# Altium schematic symbol library WP-SMSH.SchLib: 8 symbols
Pins are listed as number, name and electrical type; pins without a type are passive.

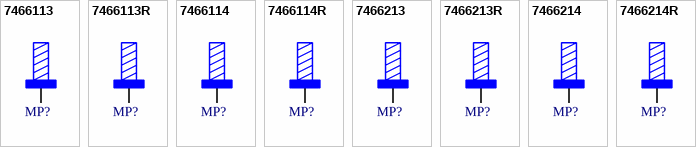
[diagram p0: symbols 7466113 to 7466214R]

## 7466113
designator MP?, comment M3 x 5mm  (value not drawn)
WP-SMSH REDCUBE SMT with external thread with pins, OD 7mm, M3 x 5mm, 50A; Manufacturer Part Number: 7466113; Manufacturer: Wurth Elektronik; Surface: Tin; ComponentLink1Description: Website Link; ComponentLink1URL: https://www.we-online.com/redexpert/article/7466113?ad; ComponentLink2Description: Datasheet Link; ComponentLink2URL: https://www.we-online.com/redexpert/spec/7466113?ad; Category: REDCUBE SMT; Match Code: WP-SMSH; Mount: Surface Mount; Operating Temperature Max: 150°C; Operating Temperature Min: -55°C; Packaging: Bulk; Height: 8mm; Diameter: 7mm; Material: Brass; Outer Diameter: 7mm; Rated Current: 50A; Thread Length: 5mm; Thread Size: M3
footprint 7466113
pins: 1

## 7466113R
designator MP?, comment M3 x 5mm  (value not drawn)
WP-SMSH REDCUBE SMT with external thread with pins, OD 7mm, M3 x 5mm, 50A; Manufacturer Part Number: 7466113R; Manufacturer: Wurth Elektronik; Surface: Tin; ComponentLink1Description: Website Link; ComponentLink1URL: https://www.we-online.com/redexpert/article/7466113R?ad; ComponentLink2Description: Datasheet Link; ComponentLink2URL: https://www.we-online.com/redexpert/spec/7466113R?ad; Category: REDCUBE SMT; Match Code: WP-SMSH; Mount: Surface Mount; Operating Temperature Max: 150°C; Operating Temperature Min: -55°C; Packaging: Tape and Reel; Height: 8mm; Diameter: 7mm; Material: Brass; Outer Diameter: 7mm; Rated Current: 50A; Thread Length: 5mm; Thread Size: M3
footprint 7466113
pins: 1

## 7466114
designator MP?, comment M4 x 5mm  (value not drawn)
WP-SMSH REDCUBE SMT with external thread with pins, OD 7mm, M4 x 5mm, 50A; Manufacturer Part Number: 7466114; Manufacturer: Wurth Elektronik; Surface: Tin; ComponentLink1Description: Website Link; ComponentLink1URL: https://www.we-online.com/redexpert/article/7466114?ad; ComponentLink2Description: Datasheet Link; ComponentLink2URL: https://www.we-online.com/redexpert/spec/7466114?ad; Category: REDCUBE SMT; Match Code: WP-SMSH; Mount: Surface Mount; Operating Temperature Max: 150°C; Operating Temperature Min: -55°C; Packaging: Bulk; Height: 8mm; Diameter: 7mm; Material: Brass; Outer Diameter: 7mm; Rated Current: 50A; Thread Length: 5mm; Thread Size: M4
footprint 7466114
pins: 1

## 7466114R
designator MP?, comment M4 x 5mm  (value not drawn)
WP-SMSH REDCUBE SMT with external thread with pins, OD 7mm, M4 x 5mm, 50A; Manufacturer Part Number: 7466114R; Manufacturer: Wurth Elektronik; Surface: Tin; ComponentLink1Description: Website Link; ComponentLink1URL: https://www.we-online.com/redexpert/article/7466114R?ad; ComponentLink2Description: Datasheet Link; ComponentLink2URL: https://www.we-online.com/redexpert/spec/7466114R?ad; Category: REDCUBE SMT; Match Code: WP-SMSH; Mount: Surface Mount; Operating Temperature Max: 150°C; Operating Temperature Min: -55°C; Packaging: Tape and Reel; Height: 8mm; Diameter: 7mm; Material: Brass; Outer Diameter: 7mm; Rated Current: 50A; Thread Length: 5mm; Thread Size: M4
footprint 7466114
pins: 1

## 7466213
designator MP?, comment M3 x 5mm  (value not drawn)
WP-SMSH REDCUBE SMT with external thread, OD 7mm, M3 x 5mm, 50A; Manufacturer Part Number: 7466213; Manufacturer: Wurth Elektronik; Surface: Tin; ComponentLink1Description: Website Link; ComponentLink1URL: https://www.we-online.com/redexpert/article/7466213?ad; ComponentLink2Description: Datasheet Link; ComponentLink2URL: https://www.we-online.com/redexpert/spec/7466213?ad; Category: REDCUBE SMT; Match Code: WP-SMSH; Mount: Surface Mount; Operating Temperature Max: 150°C; Operating Temperature Min: -55°C; Packaging: Bulk; Height: 8mm; Diameter: 7mm; Material: Brass; Outer Diameter: 7mm; Rated Current: 50A; Thread Length: 5mm; Thread Size: M3
footprint 7466213
pins: 1

## 7466213R
designator MP?, comment M3 x 5mm  (value not drawn)
WP-SMSH REDCUBE SMT with external thread, OD 7mm, M3 x 5mm, 50A; Manufacturer Part Number: 7466213R; Manufacturer: Wurth Elektronik; Surface: Tin; ComponentLink1Description: Website Link; ComponentLink1URL: https://www.we-online.com/redexpert/article/7466213R?ad; ComponentLink2Description: Datasheet Link; ComponentLink2URL: https://www.we-online.com/redexpert/spec/7466213R?ad; Category: REDCUBE SMT; Match Code: WP-SMSH; Mount: Surface Mount; Operating Temperature Max: 150°C; Operating Temperature Min: -55°C; Packaging: Tape and Reel; Height: 8mm; Diameter: 7mm; Material: Brass; Outer Diameter: 7mm; Rated Current: 50A; Thread Length: 5mm; Thread Size: M3
footprint 7466213
pins: 1

## 7466214
designator MP?, comment M4 x 5mm  (value not drawn)
WP-SMSH REDCUBE SMT with external thread, OD 7mm, M4 x 5mm, 50A; Manufacturer Part Number: 7466214; Manufacturer: Wurth Elektronik; Surface: Tin; ComponentLink1Description: Website Link; ComponentLink1URL: https://www.we-online.com/redexpert/article/7466214?ad; ComponentLink2Description: Datasheet Link; ComponentLink2URL: https://www.we-online.com/redexpert/spec/7466214?ad; Category: REDCUBE SMT; Match Code: WP-SMSH; Mount: Surface Mount; Operating Temperature Max: 150°C; Operating Temperature Min: -55°C; Packaging: Bulk; Height: 8mm; Diameter: 7mm; Material: Brass; Outer Diameter: 7mm; Rated Current: 50A; Thread Length: 5mm; Thread Size: M4
footprint 7466214
pins: 1

## 7466214R
designator MP?, comment M4 x 5mm  (value not drawn)
WP-SMSH REDCUBE SMT with external thread, OD 7mm, M4 x 5mm, 50A; Manufacturer Part Number: 7466214R; Manufacturer: Wurth Elektronik; Surface: Tin; ComponentLink1Description: Website Link; ComponentLink1URL: https://www.we-online.com/redexpert/article/7466214R?ad; ComponentLink2Description: Datasheet Link; ComponentLink2URL: https://www.we-online.com/redexpert/spec/7466214R?ad; Category: REDCUBE SMT; Match Code: WP-SMSH; Mount: Surface Mount; Operating Temperature Max: 150°C; Operating Temperature Min: -55°C; Packaging: Tape and Reel; Height: 8mm; Diameter: 7mm; Material: Brass; Outer Diameter: 7mm; Rated Current: 50A; Thread Length: 5mm; Thread Size: M4
footprint 7466214
pins: 1